# EAGLE library part LPS22HB (library sensor)
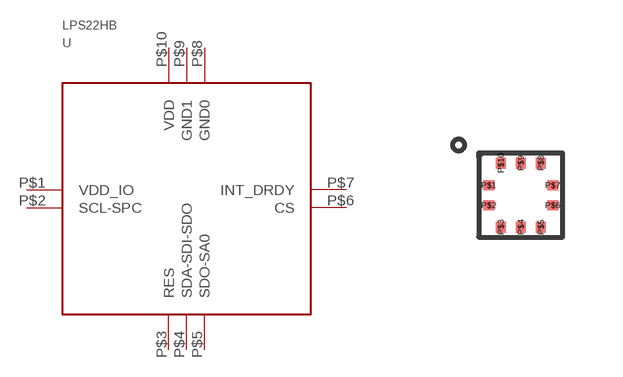
[diagram p0: symbol with the pads of HLGA-10L; footprint HLGA-10L]

Designator prefix -

## LPS22HB  [HLGA-10L]
P$1  VDD_IO
P$2  SCL-SPC
P$3  RES
P$4  SDA-SDI-SDO
P$5  SDO-SA0
P$6  CS
P$7  INT_DRDY
P$8  GND0
P$9  GND1
P$10  VDD

## Footprint HLGA-10L (pad centres in mm)
smd 0.275 x 0.25: P$1 -0.8,0.25; P$2 -0.8,-0.25; P$6 0.8,-0.25; P$7 0.8,0.25
smd 0.25 x 0.275: P$3 -0.5,-0.8; P$4 0,-0.8; P$5 0.5,-0.8; P$8 0.5,0.8; P$9 0,0.8; P$10 -0.5,0.8